# EAGLE library part TLW-114-05-G-S (library SAMTEC-Txx_By_element14_Batch_1)
CONNECTOR HEADER, 14 WAY, 1ROW
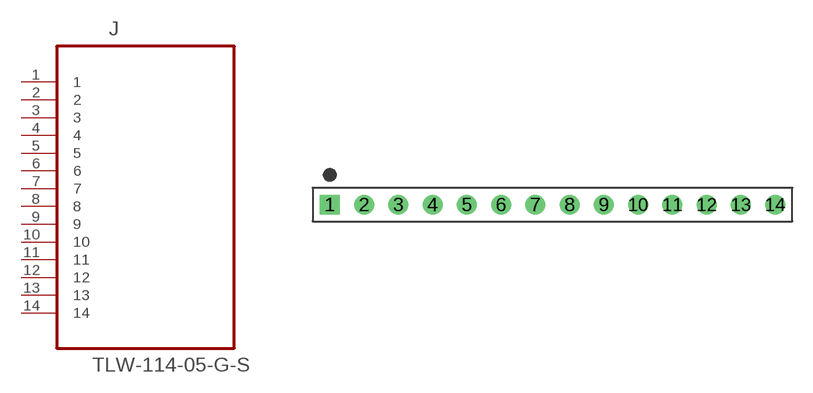
[diagram p205: symbol with the pads of SAMTEC_TLW-114-05-G-S; footprint SAMTEC_TLW-114-05-G-S]

Designator prefix J

## TLW-114-05-G-S (MPN: TLW-114-05-G-S; OC_FARNELL: 1668508; OC_NEWARK: 12P0468; PACKAGE: CONN HEADER 14 POS .100 inch; SUPPLIER: SAMTEC)  [SAMTEC_TLW-114-05-G-S]
1  1  pas
2  2  pas
3  3  pas
4  4  pas
5  5  pas
6  6  pas
7  7  pas
8  8  pas
9  9  pas
10  10  pas
11  11  pas
12  12  pas
13  13  pas
14  14  pas

## Footprint SAMTEC_TLW-114-05-G-S (pad centres in mm)
drill 0.965 square: 1 -33.02,0
drill 0.965: 2 -30.48,0; 3 -27.94,0; 4 -25.4,0; 5 -22.86,0; 6 -20.32,0; 7 -17.78,0; 8 -15.24,0; 9 -12.7,0; 10 -10.16,0; 11 -7.62,0; 12 -5.08,0; 13 -2.54,0; 14 0,0